# EAGLE library part VSK-S3-5U (library C3-CUI)
CUI Inc. AC-DC Power Supply, 115/230VAC - 5VDC, 3W
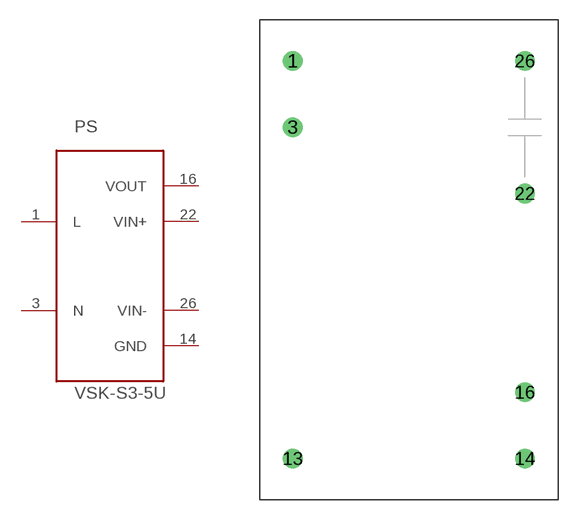
[diagram p0: symbol with the pads of VSK-S3; footprint VSK-S3]

Designator prefix PS

## VSK-S3-5U  [VSK-S3]
1  L  pas
3  N  pas
14  GND  pwr
16  VOUT  pwr
22  VIN+  out
26  VIN-  in

## Footprint VSK-S3 (pad centres in mm)
drill 1: 1 -7.62,15.24; 3 -7.62,10.16; 13 -7.62,-15.24; 14 10.16,-15.24; 16 10.16,-10.16; 22 10.16,5.08; 26 10.16,15.24